# EAGLE library part P80C32X2BBD,157 (library NXP_By_element14_Batch_1)
8-bit microcontroller
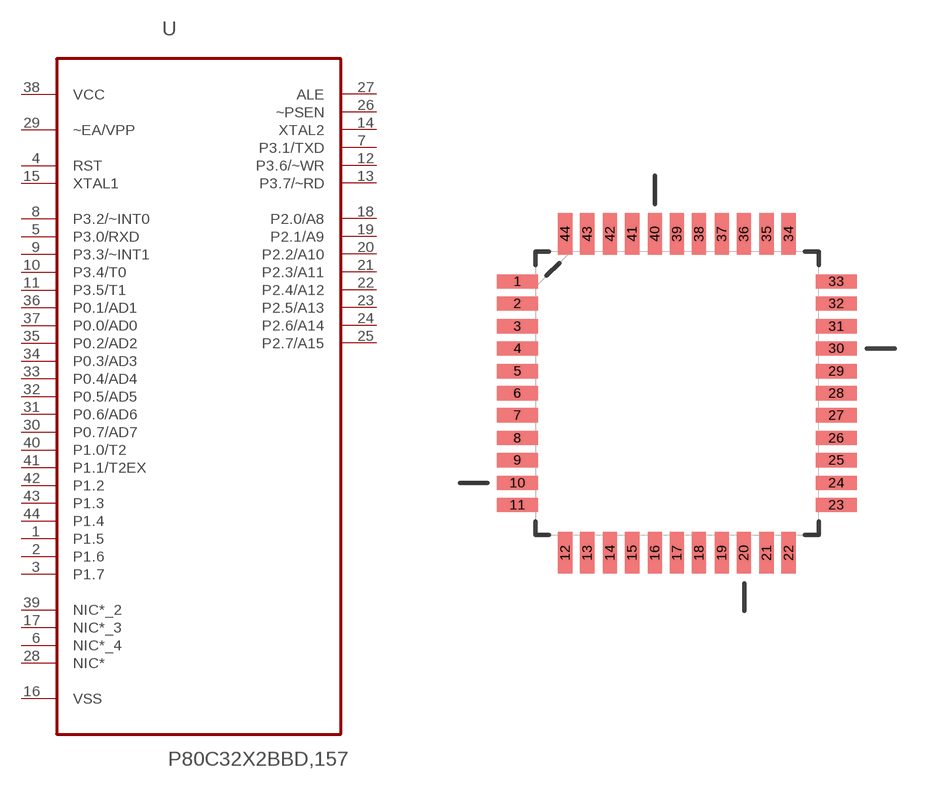
[diagram p388: symbol with the pads of QFP80P1200X1200X160-44N; footprint QFP80P1200X1200X160-44N]

Designator prefix U

## P80C32X2BBD,157 (MPN: P80C32X2BBD,157; OC_FARNELL: -; OC_NEWARK: 70R8440; PACKAGE: LQFP-44; SUPPLIER: NXP)  [QFP80P1200X1200X160-44N]
1  P1.5
2  P1.6
3  P1.7
4  RST  in
5  P3.0/RXD  in
6  NIC*_4  nc
7  P3.1/TXD  out
8  P3.2/~INT0  in
9  P3.3/~INT1  in
10  P3.4/T0  in
11  P3.5/T1  in
12  P3.6/~WR  out
13  P3.7/~RD  out
14  XTAL2  out
15  XTAL1  in
16  VSS  pas
17  NIC*_3  nc
18  P2.0/A8
19  P2.1/A9
20  P2.2/A10
21  P2.3/A11
22  P2.4/A12
23  P2.5/A13
24  P2.6/A14
25  P2.7/A15
26  ~PSEN  out
27  ALE  out
28  NIC*  nc
29  ~EA/VPP  in
30  P0.7/AD7
31  P0.6/AD6
32  P0.5/AD5
33  P0.4/AD4
34  P0.3/AD3
35  P0.2/AD2
36  P0.1/AD1
37  P0.0/AD0
38  VCC  pwr
39  NIC*_2  nc
40  P1.0/T2
41  P1.1/T2EX
42  P1.2
43  P1.3
44  P1.4

## Footprint QFP80P1200X1200X160-44N (pad centres in mm)
smd 1.473 x 0.508: 1 -5.69,3.988; 2 -5.69,3.2; 3 -5.69,2.388; 4 -5.69,1.6; 5 -5.69,0.787; 6 -5.69,0; 7 -5.69,-0.787; 8 -5.69,-1.6; 9 -5.69,-2.388; 10 -5.69,-3.2; 11 -5.69,-3.988; 23 5.69,-3.988; 24 5.69,-3.2; 25 5.69,-2.388; 26 5.69,-1.6; 27 5.69,-0.787; 28 5.69,0; 29 5.69,0.787; 30 5.69,1.6; 31 5.69,2.388; 32 5.69,3.2; 33 5.69,3.988
smd 0.508 x 1.473: 12 -3.988,-5.69; 13 -3.2,-5.69; 14 -2.388,-5.69; 15 -1.6,-5.69; 16 -0.787,-5.69; 17 0,-5.69; 18 0.787,-5.69; 19 1.6,-5.69; 20 2.388,-5.69; 21 3.2,-5.69; 22 3.988,-5.69; 34 3.988,5.69; 35 3.2,5.69; 36 2.388,5.69; 37 1.6,5.69; 38 0.787,5.69; 39 0,5.69; 40 -0.787,5.69; 41 -1.6,5.69; 42 -2.388,5.69; 43 -3.2,5.69; 44 -3.988,5.69